# Altium schematic symbol library memory_flash_nand_parallel.SchLib: 12 symbols
Pins are listed as number, name and electrical type; pins without a type are passive.

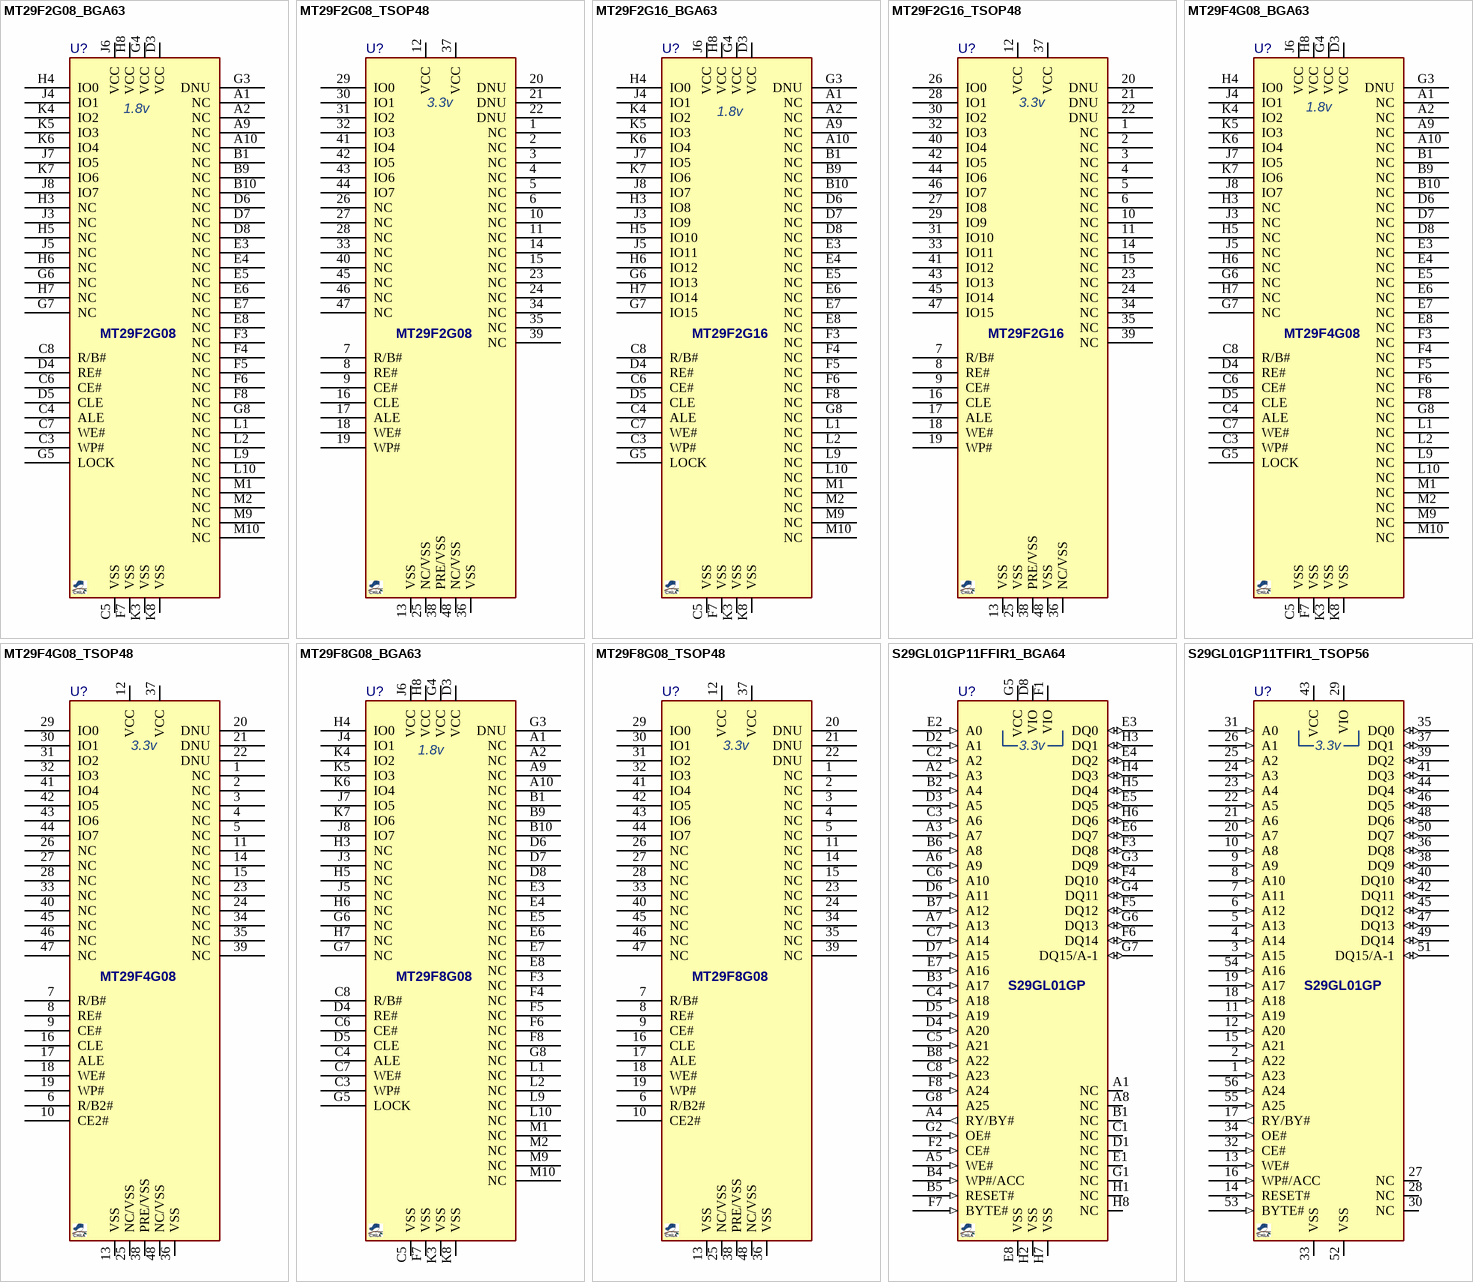
[diagram p0: symbols MT29F2G08_BGA63 to S29GL01GP11TFIR1_TSOP56]

## MT29F2G08_BGA63
designator U?, comment MT29F2G08  (value not drawn)
FLASH MEMORY, NAND, 2Gb (256M x 8-Bit) , 1.8V; MANF: Micron; DESC: DESCRIPTION; MANF_P#: MT29F2G08ABBGAH4; ASSEMBLY: ASSEMBLY; PARAM: 2Gb (256M x 8-Bit); PRICE: 4$; PACKAGE: VFBGA-63; PARAM2: 1.8v; VALUE: MT29F2G08
footprint BGA80_63_12X14 (BGA, VFBGA63, 0.8mm pitch)
pins: A1 NC, A2 NC, A9 NC, A10 NC, B1 NC, B9 NC, B10 NC, C3 WP#, C4 ALE, C5 VSS, C6 CE#, C7 WE#, C8 R/B#, D3 VCC, D4 RE#, D5 CLE, D6 NC, D7 NC, D8 NC, E3 NC, E4 NC, E5 NC, E6 NC, E7 NC, E8 NC, F3 NC, F4 NC, F5 NC, F6 NC, F7 VSS, F8 NC, G3 DNU, G4 VCC, G5 LOCK, G6 NC, G7 NC, G8 NC, H3 NC, H4 IO0, H5 NC, H6 NC, H7 NC, H8 VCC, J3 NC, J4 IO1, J5 NC, J6 VCC, J7 IO5, J8 IO7, K3 VSS, K4 IO2, K5 IO3, K6 IO4, K7 IO6, K8 VSS, L1 NC, L2 NC, L9 NC, L10 NC, M1 NC, M2 NC, M9 NC, M10 NC

## MT29F2G08_TSOP48
designator U?, comment MT29F2G08  (value not drawn)
FLASH MEMORY, NAND, 2Gb (256M x 8-Bit) , 3.3v; MANF: Micron; DESC: DESCRIPTION; PARAM2: 2.7~3.6v; MANF_P#: MT29F2G08ABAGAWP; ASSEMBLY: ASSEMBLY; PARAM: 2Gb (256M x 8-Bit); PRICE: 4$; PACKAGE: TSOP-48; VALUE: MT29F2G08
footprint SOG50_48_W (TSOP I, 12x20mm, pitch: 0.5mm)
pins: 1 NC, 2 NC, 3 NC, 4 NC, 5 NC, 6 NC, 7 R/B#, 8 RE#, 9 CE#, 10 NC, 11 NC, 12 VCC, 13 VSS, 14 NC, 15 NC, 16 CLE, 17 ALE, 18 WE#, 19 WP#, 20 DNU, 21 DNU, 22 DNU, 23 NC, 24 NC, 25 NC/VSS, 26 NC, 27 NC, 28 NC, 29 IO0, 30 IO1, 31 IO2, 32 IO3, 33 NC, 34 NC, 35 NC, 36 VSS, 37 VCC, 38 PRE/VSS, 39 NC, 40 NC, 41 IO4, 42 IO5, 43 IO6, 44 IO7, 45 NC, 46 NC, 47 NC, 48 NC/VSS
text: 3.3v

## MT29F2G16_BGA63
designator U?, comment MT29F2G16  (value not drawn)
FLASH MEMORY, NAND, 2Gb (128M x 16-Bit) , 1.8V; MANF: Micron; PARAM: 2Gb (256M x 16-Bit); DESC: DESCRIPTION; MANF_P#: MT29F2G16ABBEAHC; ASSEMBLY: ASSEMBLY; PRICE: 4$; PACKAGE: VFBGA-63; PARAM2: 1.8v; VALUE: MT29F2G16
footprint BGA80_63_12X14 (BGA, VFBGA63, 0.8mm pitch)
pins: A1 NC, A2 NC, A9 NC, A10 NC, B1 NC, B9 NC, B10 NC, C3 WP#, C4 ALE, C5 VSS, C6 CE#, C7 WE#, C8 R/B#, D3 VCC, D4 RE#, D5 CLE, D6 NC, D7 NC, D8 NC, E3 NC, E4 NC, E5 NC, E6 NC, E7 NC, E8 NC, F3 NC, F4 NC, F5 NC, F6 NC, F7 VSS, F8 NC, G3 DNU, G4 VCC, G5 LOCK, G6 IO13, G7 IO15, G8 NC, H3 IO8, H4 IO0, H5 IO10, H6 IO12, H7 IO14, H8 VCC, J3 IO9, J4 IO1, J5 IO11, J6 VCC, J7 IO5, J8 IO7, K3 VSS, K4 IO2, K5 IO3, K6 IO4, K7 IO6, K8 VSS, L1 NC, L2 NC, L9 NC, L10 NC, M1 NC, M2 NC, M9 NC, M10 NC

## MT29F2G16_TSOP48
designator U?, comment MT29F2G16  (value not drawn)
FLASH MEMORY, NAND, 2Gb (128M x 16-Bit) , 3.3v; MANF: Micron; DESC: DESCRIPTION; MANF_P#: MT29F2G16ABAGAWP; PARAM2: 2.7~3.6v; ASSEMBLY: ASSEMBLY; PARAM: 2Gb (128M x 16-Bit); PRICE: 4$; PACKAGE: TSOP-48; VALUE: MT29F2G16
footprint SOG50_48_W (TSOP I, 12x20mm, pitch: 0.5mm)
pins: 1 NC, 2 NC, 3 NC, 4 NC, 5 NC, 6 NC, 7 R/B#, 8 RE#, 9 CE#, 10 NC, 11 NC, 12 VCC, 13 VSS, 14 NC, 15 NC, 16 CLE, 17 ALE, 18 WE#, 19 WP#, 20 DNU, 21 DNU, 22 DNU, 23 NC, 24 NC, 25 VSS, 26 IO0, 27 IO8, 28 IO1, 29 IO9, 30 IO2, 31 IO10, 32 IO3, 33 IO11, 34 NC, 35 NC, 36 NC/VSS, 37 VCC, 38 PRE/VSS, 39 NC, 40 IO4, 41 IO12, 42 IO5, 43 IO13, 44 IO6, 45 IO14, 46 IO7, 47 IO15, 48 VSS
text: 3.3v

## MT29F4G08_BGA63
designator U?, comment MT29F4G08  (value not drawn)
FLASH MEMORY, NAND, 4Gb (512M x 8-Bit) , 1.8v; MANF: Micron; DESC: DESCRIPTION; MANF_P#: MT29F4G08ABBFAH4; ASSEMBLY: ASSEMBLY; PARAM: 4Gb (512M x 8-Bit); PRICE: 4$; PACKAGE: VFBGA-63; PARAM2: 1.8v; VALUE: MT29F4G08
footprint BGA80_63_12X14 (BGA, VFBGA63, 0.8mm pitch)
pins: A1 NC, A2 NC, A9 NC, A10 NC, B1 NC, B9 NC, B10 NC, C3 WP#, C4 ALE, C5 VSS, C6 CE#, C7 WE#, C8 R/B#, D3 VCC, D4 RE#, D5 CLE, D6 NC, D7 NC, D8 NC, E3 NC, E4 NC, E5 NC, E6 NC, E7 NC, E8 NC, F3 NC, F4 NC, F5 NC, F6 NC, F7 VSS, F8 NC, G3 DNU, G4 VCC, G5 LOCK, G6 NC, G7 NC, G8 NC, H3 NC, H4 IO0, H5 NC, H6 NC, H7 NC, H8 VCC, J3 NC, J4 IO1, J5 NC, J6 VCC, J7 IO5, J8 IO7, K3 VSS, K4 IO2, K5 IO3, K6 IO4, K7 IO6, K8 VSS, L1 NC, L2 NC, L9 NC, L10 NC, M1 NC, M2 NC, M9 NC, M10 NC

## MT29F4G08_TSOP48
designator U?, comment MT29F4G08  (value not drawn)
FLASH MEMORY, NAND, 4Gb (512M x 8-Bit) , 3.3v; MANF: Micron; DESC: DESCRIPTION; MANF_P#: MT29F4G08ABAFAWP; PARAM2: 2.7~3.6v; ASSEMBLY: ASSEMBLY; PARAM: 4Gb (512M x 8-Bit); PRICE: 4$; PACKAGE: TSOP-48; VALUE: MT29F4G08
footprint SOG50_48_W (TSOP I, 12x20mm, pitch: 0.5mm)
pins: 1 NC, 2 NC, 3 NC, 4 NC, 5 NC, 6 R/B2#, 7 R/B#, 8 RE#, 9 CE#, 10 CE2#, 11 NC, 12 VCC, 13 VSS, 14 NC, 15 NC, 16 CLE, 17 ALE, 18 WE#, 19 WP#, 20 DNU, 21 DNU, 22 DNU, 23 NC, 24 NC, 25 NC/VSS, 26 NC, 27 NC, 28 NC, 29 IO0, 30 IO1, 31 IO2, 32 IO3, 33 NC, 34 NC, 35 NC, 36 VSS, 37 VCC, 38 PRE/VSS, 39 NC, 40 NC, 41 IO4, 42 IO5, 43 IO6, 44 IO7, 45 NC, 46 NC, 47 NC, 48 NC/VSS
text: 3.3v

## MT29F8G08_BGA63
designator U?, comment MT29F4G08  (value not drawn)
FLASH MEMORY, NAND, 8Gb (1G x 8-Bit) , 1.8v; MANF: Micron; DESC: DESCRIPTION; MANF_P#: MT29F8G08ABBCAH4; ASSEMBLY: ASSEMBLY; PARAM: 8Gb (1G x 8-Bit); PRICE: 4$; PACKAGE: VFBGA-63; PARAM2: 1.8v; VALUE: MT29F4G08
footprint BGA80_63_12X14 (BGA, VFBGA63, 0.8mm pitch)
pins: A1 NC, A2 NC, A9 NC, A10 NC, B1 NC, B9 NC, B10 NC, C3 WP#, C4 ALE, C5 VSS, C6 CE#, C7 WE#, C8 R/B#, D3 VCC, D4 RE#, D5 CLE, D6 NC, D7 NC, D8 NC, E3 NC, E4 NC, E5 NC, E6 NC, E7 NC, E8 NC, F3 NC, F4 NC, F5 NC, F6 NC, F7 VSS, F8 NC, G3 DNU, G4 VCC, G5 LOCK, G6 NC, G7 NC, G8 NC, H3 NC, H4 IO0, H5 NC, H6 NC, H7 NC, H8 VCC, J3 NC, J4 IO1, J5 NC, J6 VCC, J7 IO5, J8 IO7, K3 VSS, K4 IO2, K5 IO3, K6 IO4, K7 IO6, K8 VSS, L1 NC, L2 NC, L9 NC, L10 NC, M1 NC, M2 NC, M9 NC, M10 NC
text: MT29F8G08

## MT29F8G08_TSOP48
designator U?, comment MT29F8G08  (value not drawn)
FLASH MEMORY, NAND, 8Gb (1G x 8-Bit) , 3.3v; MANF: Micron; DESC: DESCRIPTION; MANF_P#: MT29F8G08ABACAWP; PARAM2: 2.7~3.6v; ASSEMBLY: ASSEMBLY; PARAM: 8Gb (1G x 8-Bit); PRICE: 4$; PACKAGE: TSOP-48; VALUE: MT29F8G08
footprint SOG50_48_W (TSOP I, 12x20mm, pitch: 0.5mm)
pins: 1 NC, 2 NC, 3 NC, 4 NC, 5 NC, 6 R/B2#, 7 R/B#, 8 RE#, 9 CE#, 10 CE2#, 11 NC, 12 VCC, 13 VSS, 14 NC, 15 NC, 16 CLE, 17 ALE, 18 WE#, 19 WP#, 20 DNU, 21 DNU, 22 DNU, 23 NC, 24 NC, 25 NC/VSS, 26 NC, 27 NC, 28 NC, 29 IO0, 30 IO1, 31 IO2, 32 IO3, 33 NC, 34 NC, 35 NC, 36 VSS, 37 VCC, 38 PRE/VSS, 39 NC, 40 NC, 41 IO4, 42 IO5, 43 IO6, 44 IO7, 45 NC, 46 NC, 47 NC, 48 NC/VSS
text: 3.3v

## S29GL01GP11FFIR1_BGA64
designator U?, comment S29GL01GP  (value not drawn)
FLASH MEMORY, NAND, 1Gb, 3.3V; MANF: Infineon/Cypress; PARAM: 1Gb, 110ns, -40~85°C; DESC: DESCRIPTION; MANF_P#: S29GL01GP11FFIR1; ASSEMBLY: ASSEMBLY; PRICE: 8$; PACKAGE: BGA-64; PARAM2: 3.3v; VALUE: S29GL01GP
footprint BGA100_64_13X11 (BGA, LAA064, 64-Leads, Body 13x11mm, Pitch 1mm)
pins: A1 NC, A2 A3 (in), A3 A7 (in), A4 RY/BY# (out), A5 WE# (in), A6 A9 (in), A7 A13 (in), A8 NC, B1 NC, B2 A4 (in), B3 A17 (in), B4 WP#/ACC (in), B5 RESET# (in), B6 A8 (in), B7 A12 (in), B8 A22 (in), C1 NC, C2 A2 (in), C3 A6 (in), C4 A18 (in), C5 A21 (in), C6 A10 (in), C7 A14 (in), C8 A23 (in), D1 NC, D2 A1 (in), D3 A5 (in), D4 A20 (in), D5 A19 (in), D6 A11 (in), D7 A15 (in), D8 VIO, E1 NC, E2 A0 (in), E3 DQ0 (io), E4 DQ2 (io), E5 DQ5 (io), E6 DQ7 (io), E7 A16 (in), E8 VSS, F1 VIO, F2 CE# (in), F3 DQ8 (io), F4 DQ10 (io), F5 DQ12 (io), F6 DQ14 (io), F7 BYTE# (in), F8 A24 (in), G1 NC, G2 OE# (in), G3 DQ9 (io), G4 DQ11 (io), G5 VCC, G6 DQ13 (io), G7 DQ15/A-1 (io), G8 A25, H1 NC, H2 VSS, H3 DQ1 (io), H4 DQ3 (io), H5 DQ4 (io), H6 DQ6 (io), H7 VSS, H8 NC

## S29GL01GP11TFIR1_TSOP56
designator U?, comment S29GL01GP  (value not drawn)
FLASH MEMORY, NAND, 1Gb, 3.3V; MANF: Infineon/Cypress; PARAM: 1Gb, 110ns, -40~85°C; DESC: DESCRIPTION; MANF_P#: S29GL01GP11TFIR1; ASSEMBLY: ASSEMBLY; PRICE: 8$; PACKAGE: TSOP-56; PARAM2: 3.3v; VALUE: S29GL01GP
footprint SOG50_56_W (TSOP56, TS056, pitch: 0.5mm, 18.4x14mm)
pins: 1 A23 (in), 2 A22 (in), 3 A15 (in), 4 A14 (in), 5 A13 (in), 6 A12 (in), 7 A11 (in), 8 A10 (in), 9 A9 (in), 10 A8 (in), 11 A19 (in), 12 A20 (in), 13 WE# (in), 14 RESET# (in), 15 A21 (in), 16 WP#/ACC (in), 17 RY/BY# (out), 18 A18 (in), 19 A17 (in), 20 A7 (in), 21 A6 (in), 22 A5 (in), 23 A4 (in), 24 A3 (in), 25 A2 (in), 26 A1 (in), 27 NC, 28 NC, 29 VIO, 30 NC, 31 A0 (in), 32 CE# (in), 33 VSS, 34 OE# (in), 35 DQ0 (io), 36 DQ8 (io), 37 DQ1 (io), 38 DQ9 (io), 39 DQ2 (io), 40 DQ10 (io), 41 DQ3 (io), 42 DQ11 (io), 43 VCC, 44 DQ4 (io), 45 DQ12 (io), 46 DQ5 (io), 47 DQ13 (io), 48 DQ6 (io), 49 DQ14 (io), 50 DQ7 (io), 51 DQ15/A-1 (io), 52 VSS, 53 BYTE# (in), 54 A16 (in), 55 A25 (in), 56 A24 (in)

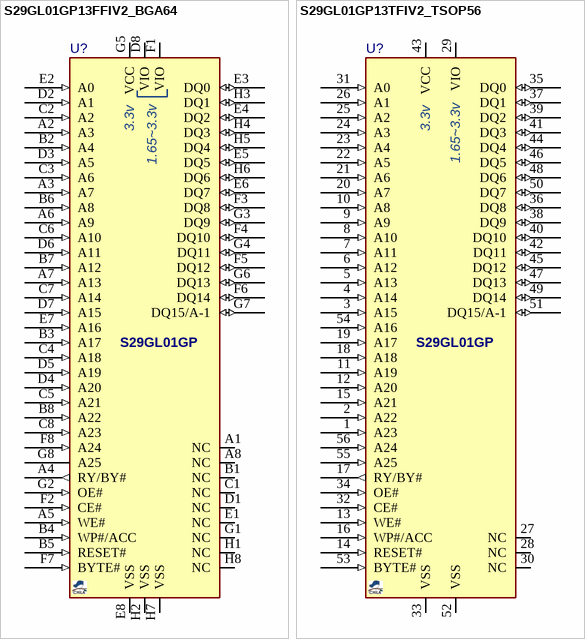
[diagram p1: symbols S29GL01GP13FFIV2_BGA64 to S29GL01GP13TFIV2_TSOP56]

## S29GL01GP13FFIV2_BGA64
designator U?, comment S29GL01GP  (value not drawn)
FLASH MEMORY, NAND, 1Gb, 3.3V+1.8v; MANF: Infineon/Cypress; PARAM: 1Gb, 130ns, -40~85°C; DESC: DESCRIPTION; MANF_P#: S29GL01GP13FFIV2; PARAM2: 3.3VCC, VIO 1.65~3.3v; ASSEMBLY: ASSEMBLY; PRICE: 8$; PACKAGE: BGA-64; VALUE: S29GL01GP
footprint BGA100_64_13X11 (BGA, LAA064, 64-Leads, Body 13x11mm, Pitch 1mm)
pins: A1 NC, A2 A3 (in), A3 A7 (in), A4 RY/BY# (out), A5 WE# (in), A6 A9 (in), A7 A13 (in), A8 NC, B1 NC, B2 A4 (in), B3 A17 (in), B4 WP#/ACC (in), B5 RESET# (in), B6 A8 (in), B7 A12 (in), B8 A22 (in), C1 NC, C2 A2 (in), C3 A6 (in), C4 A18 (in), C5 A21 (in), C6 A10 (in), C7 A14 (in), C8 A23 (in), D1 NC, D2 A1 (in), D3 A5 (in), D4 A20 (in), D5 A19 (in), D6 A11 (in), D7 A15 (in), D8 VIO, E1 NC, E2 A0 (in), E3 DQ0 (io), E4 DQ2 (io), E5 DQ5 (io), E6 DQ7 (io), E7 A16 (in), E8 VSS, F1 VIO, F2 CE# (in), F3 DQ8 (io), F4 DQ10 (io), F5 DQ12 (io), F6 DQ14 (io), F7 BYTE# (in), F8 A24 (in), G1 NC, G2 OE# (in), G3 DQ9 (io), G4 DQ11 (io), G5 VCC, G6 DQ13 (io), G7 DQ15/A-1 (io), G8 A25, H1 NC, H2 VSS, H3 DQ1 (io), H4 DQ3 (io), H5 DQ4 (io), H6 DQ6 (io), H7 VSS, H8 NC
text: 3.3v; 1.65~3.3v

## S29GL01GP13TFIV2_TSOP56
designator U?, comment S29GL01GP  (value not drawn)
FLASH MEMORY, NAND, 1Gb, 3.3V+1.8v; MANF: Infineon/Cypress; PARAM: 1Gb, 130ns, -40~85°C; DESC: DESCRIPTION; MANF_P#: S29GL01GP11TFIV2; PARAM2: 3.3VCC, VIO 1.65~3.3v; ASSEMBLY: ASSEMBLY; PRICE: 8$; PACKAGE: TSOP-56; VALUE: S29GL01GP
footprint SOG50_56_W (TSOP56, TS056, pitch: 0.5mm, 18.4x14mm)
pins: 1 A23 (in), 2 A22 (in), 3 A15 (in), 4 A14 (in), 5 A13 (in), 6 A12 (in), 7 A11 (in), 8 A10 (in), 9 A9 (in), 10 A8 (in), 11 A19 (in), 12 A20 (in), 13 WE# (in), 14 RESET# (in), 15 A21 (in), 16 WP#/ACC (in), 17 RY/BY# (out), 18 A18 (in), 19 A17 (in), 20 A7 (in), 21 A6 (in), 22 A5 (in), 23 A4 (in), 24 A3 (in), 25 A2 (in), 26 A1 (in), 27 NC, 28 NC, 29 VIO, 30 NC, 31 A0 (in), 32 CE# (in), 33 VSS, 34 OE# (in), 35 DQ0 (io), 36 DQ8 (io), 37 DQ1 (io), 38 DQ9 (io), 39 DQ2 (io), 40 DQ10 (io), 41 DQ3 (io), 42 DQ11 (io), 43 VCC, 44 DQ4 (io), 45 DQ12 (io), 46 DQ5 (io), 47 DQ13 (io), 48 DQ6 (io), 49 DQ14 (io), 50 DQ7 (io), 51 DQ15/A-1 (io), 52 VSS, 53 BYTE# (in), 54 A16 (in), 55 A25 (in), 56 A24 (in)
text: 3.3v; 1.65~3.3v